# EAGLE library part DISP_LCD_2.8IN_240X320_50PIN (library adafruit)
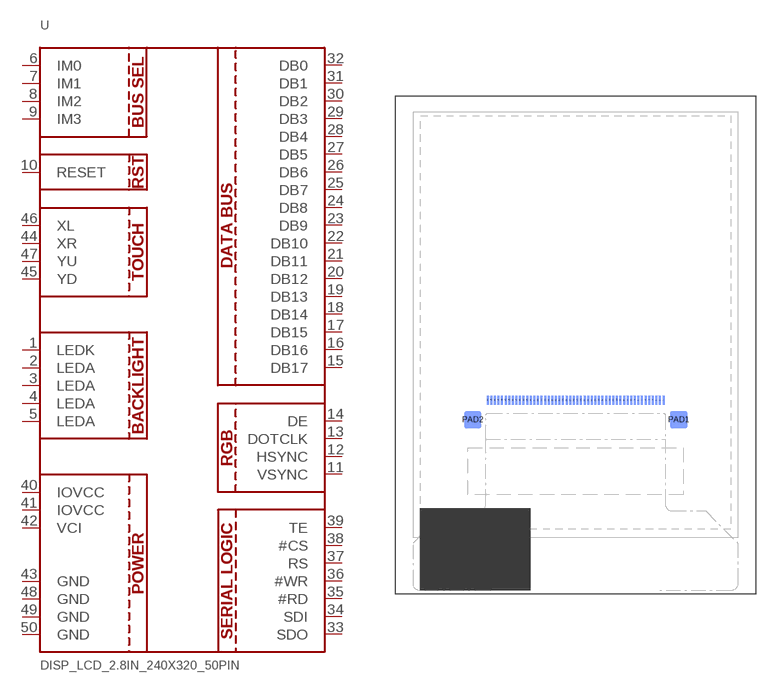
[diagram p116: symbol with the pads of TFT_2.83IN_240X320_50PIN; footprint TFT_2.83IN_240X320_50PIN]

Designator prefix -

## DISP_LCD_2.8IN_240X320_50PIN  [TFT_2.83IN_240X320_50PIN]
1  LEDK
2  LEDA
3  LEDA
4  LEDA
5  LEDA
6  IM0
7  IM1
8  IM2
9  IM3
10  RESET
11  VSYNC
12  HSYNC
13  DOTCLK
14  DE
15  DB17
16  DB16
17  DB15
18  DB14
19  DB13
20  DB12
21  DB11
22  DB10
23  DB9
24  DB8
25  DB7
26  DB6
27  DB5
28  DB4
29  DB3
30  DB2
31  DB1
32  DB0
33  SDO
34  SDI
35  #RD
36  #WR
37  RS
38  #CS
39  TE
40  IOVCC
41  IOVCC
42  VCI
43  GND
44  XR
45  YD
46  XL
47  YU
48  GND
49  GND
50  GND

## Footprint TFT_2.83IN_240X320_50PIN (pad centres in mm)
smd 0.275 x 1.2 bottom: 1 12.25,-10.39; 2 11.75,-10.39; 3 11.25,-10.39; 4 10.75,-10.39; 5 10.25,-10.39; 6 9.75,-10.39; 7 9.25,-10.39; 8 8.75,-10.39; 9 8.25,-10.39; 10 7.75,-10.39; 11 7.25,-10.39; 12 6.75,-10.39; 13 6.25,-10.39; 14 5.75,-10.39; 15 5.25,-10.39; 16 4.75,-10.39; 17 4.25,-10.39; 18 3.75,-10.39; 19 3.25,-10.39; 20 2.75,-10.39; 21 2.25,-10.39; 22 1.75,-10.39; 23 1.25,-10.39; 24 0.75,-10.39; 25 0.25,-10.39; 26 -0.25,-10.39; 27 -0.75,-10.39; 28 -1.25,-10.39; 29 -1.75,-10.39; 30 -2.25,-10.39; 31 -2.75,-10.39; 32 -3.25,-10.39; 33 -3.75,-10.39; 34 -4.25,-10.39; 35 -4.75,-10.39; 36 -5.25,-10.39; 37 -5.75,-10.39; 38 -6.25,-10.39; 39 -6.75,-10.39; 40 -7.25,-10.39; 41 -7.75,-10.39; 42 -8.25,-10.39; 43 -8.75,-10.39; 44 -9.25,-10.39; 45 -9.75,-10.39; 46 -10.25,-10.39; 47 -10.75,-10.39; 48 -11.25,-10.39; 49 -11.75,-10.39; 50 -12.25,-10.39
smd 2.4 x 2.4 bottom: PAD1 14.35,-13.09; PAD2 -14.35,-13.09